# Altium integrated library Resistors.IntLib: 4954 symbols (part 22 of 32)
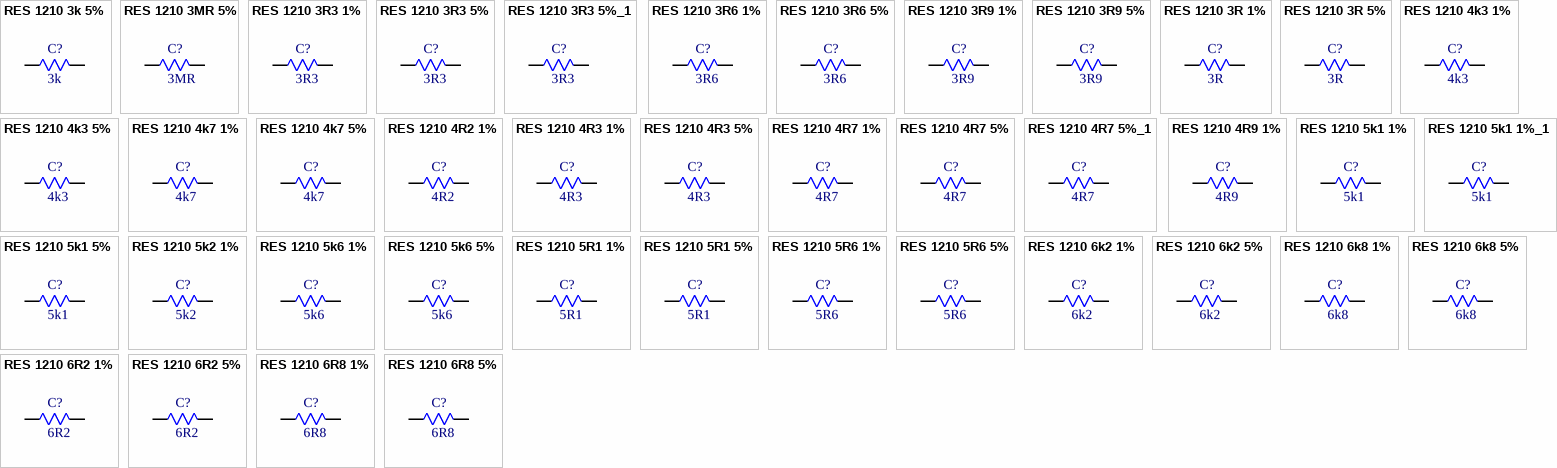
[diagram p144: symbols RES 1210 3k 5% to RES 1210 6R8 5%]

## RES 1210 6R2 5%
designator C?, comment 6R2
6.2R 5% 500mW 1210 Thick Film Resistor; Manufacturer: FOJAN; Manufacturer Part Number: FRC1210J6R2 TS; Voltage Rating: 200V; Supplier: LCSC; Supplier Part Number: C2960742; Resistance: 6R2; Tolerance: 5%; Power: 500mW
footprint RES SMD 1210
pins: 1, 2

## RES 1210 6R8 1%
designator C?, comment 6R8
6.8R 1% 500mW 1210 Thick Film Resistor; Manufacturer: FOJAN; Manufacturer Part Number: FRC1210F6R80TS; Voltage Rating: 200V; Supplier: LCSC; Supplier Part Number: C5159743; Resistance: 6R8; Tolerance: 1%; Power: 500mW
footprint RES SMD 1210
pins: 1, 2

## RES 1210 6R8 5%
designator C?, comment 6R8
6.8R 5% 500mW 1210 Thick Film Resistor; Manufacturer: FOJAN; Manufacturer Part Number: FRC1210J6R8 TS; Voltage Rating: 200V; Supplier: LCSC; Supplier Part Number: C2933873; Resistance: 6R8; Tolerance: 5%; Power: 500mW
footprint RES SMD 1210
pins: 1, 2

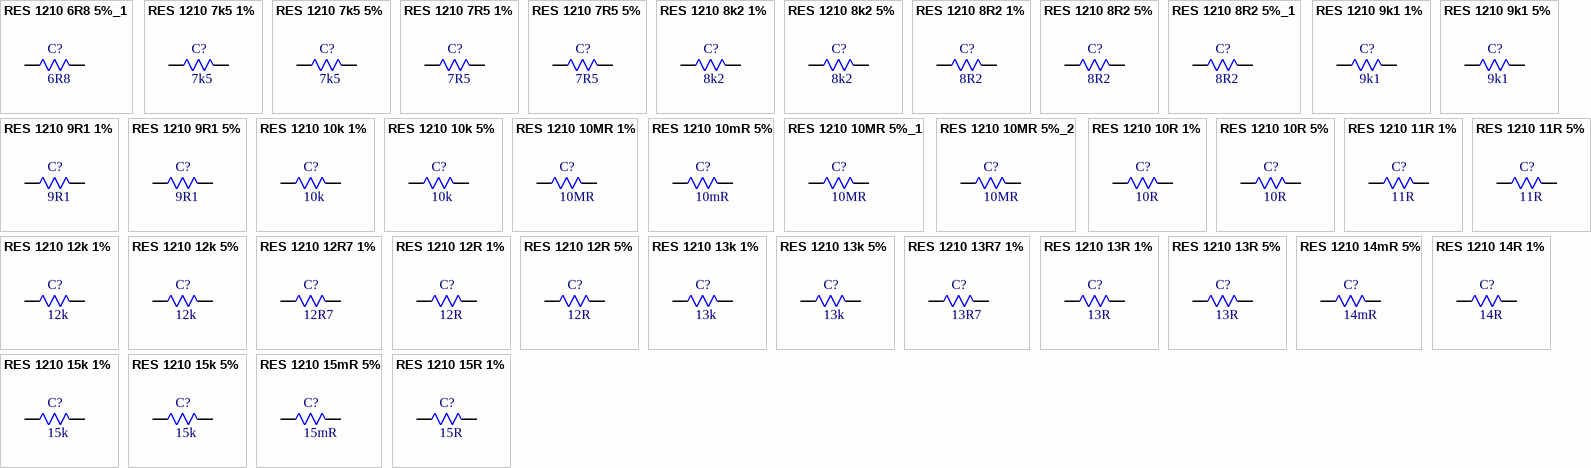
[diagram p84: symbols RES 1210 6R8 5%_1 to RES 1210 15R 1%]

## RES 1210 6R8 5%_1
designator C?, comment 6R8
6.8MR 5% 500mW 1210 Thick Film Resistor; Manufacturer: FOJAN; Manufacturer Part Number: FRC1210J685 TS; Voltage Rating: 200V; Supplier: LCSC; Supplier Part Number: C5713343; Resistance: 6R8; Tolerance: 5%; Power: 500mW
footprint RES SMD 1210
pins: 1, 2

## RES 1210 7k5 1%
designator C?, comment 7k5
7.5kR 500mW 200V Thick Film Resistor 1% 100ppm/â„ƒ 1210 Chip Resistor - Surface Mount RoHS; Manufacturer: FOJAN; Manufacturer Part Number: FRC1210F7501TS; Supplier: LCSC; Supplier Part Number: C7467381; Resistance: 7k5; Tolerance: 1%; Voltage Rating: 200V; Power: 500mW
footprint RES SMD 1210
pins: 1, 2

## RES 1210 7k5 5%
designator C?, comment 7k5
7.5kR 5% 500mW 1210 Thick Film Resistor; Manufacturer: FOJAN; Manufacturer Part Number: FRC1210J752TS; Voltage Rating: 200V; Supplier: LCSC; Supplier Part Number: C2930449; Resistance: 7k5; Tolerance: 5%; Power: 500mW
footprint RES SMD 1210
pins: 1, 2

## RES 1210 7R5 1%
designator C?, comment 7R5
7.5R 1% 500mW 1210 Thick Film Resistor; Manufacturer: FOJAN; Manufacturer Part Number: FRC1210F7R50TS; Voltage Rating: 200V; Supplier: LCSC; Supplier Part Number: C3013284; Resistance: 7R5; Tolerance: 1%; Power: 500mW
footprint RES SMD 1210
pins: 1, 2

## RES 1210 7R5 5%
designator C?, comment 7R5
7.5R 5% 500mW 1210 Thick Film Resistor; Manufacturer: FOJAN; Manufacturer Part Number: FRC1210J7R5TS; Voltage Rating: 200V; Supplier: LCSC; Supplier Part Number: C3000677; Resistance: 7R5; Tolerance: 5%; Power: 500mW
footprint RES SMD 1210
pins: 1, 2

## RES 1210 8k2 1%
designator C?, comment 8k2
8.2kR 1% 500mW 1210 Thick Film Resistor; Manufacturer: FOJAN; Manufacturer Part Number: FRC1210F8201TS; Voltage Rating: 200V; Supplier: LCSC; Supplier Part Number: C5126168; Resistance: 8k2; Tolerance: 1%; Power: 500mW
footprint RES SMD 1210
pins: 1, 2

## RES 1210 8k2 5%
designator C?, comment 8k2
8.2kR 5% 500mW 1210 Thick Film Resistor; Manufacturer: FOJAN; Manufacturer Part Number: FRC1210J822 TS; Voltage Rating: 200V; Supplier: LCSC; Supplier Part Number: C2960785; Resistance: 8k2; Tolerance: 5%; Power: 500mW
footprint RES SMD 1210
pins: 1, 2

## RES 1210 8R2 1%
designator C?, comment 8R2
8.2R 1% 500mW 1210 Thick Film Resistor; Manufacturer: FOJAN; Manufacturer Part Number: FRC1210F8R20TS; Voltage Rating: 200V; Supplier: LCSC; Supplier Part Number: C2933825; Resistance: 8R2; Tolerance: 1%; Power: 500mW
footprint RES SMD 1210
pins: 1, 2

## RES 1210 8R2 5%
designator C?, comment 8R2
8.2MR 5% 500mW 1210 Thick Film Resistor; Manufacturer: FOJAN; Manufacturer Part Number: FRC1210J825 TS; Voltage Rating: 200V; Supplier: LCSC; Supplier Part Number: C5713344; Resistance: 8R2; Tolerance: 5%; Power: 500mW
footprint RES SMD 1210
pins: 1, 2

## RES 1210 8R2 5%_1
designator C?, comment 8R2
8.2R 5% 500mW 1210 Thick Film Resistor; Manufacturer: FOJAN; Manufacturer Part Number: FRC1210J8R2 TS; Voltage Rating: 200V; Supplier: LCSC; Supplier Part Number: C5121557; Resistance: 8R2; Tolerance: 5%; Power: 500mW
footprint RES SMD 1210
pins: 1, 2

## RES 1210 9k1 1%
designator C?, comment 9k1
9.1kR 500mW 200V Thick Film Resistor 1% 1210 Chip Resistor - Surface Mount RoHS; Manufacturer: FOJAN; Manufacturer Part Number: FRC1210F9101TS; Supplier: LCSC; Supplier Part Number: C51048286; Resistance: 9k1; Tolerance: 1%; Voltage Rating: 200V; Power: 500mW
footprint RES SMD 1210
pins: 1, 2

## RES 1210 9k1 5%
designator C?, comment 9k1
9.1kR 5% 500mW 1210 Thick Film Resistor; Manufacturer: FOJAN; Manufacturer Part Number: FRC1210J912TS; Voltage Rating: 200V; Supplier: LCSC; Supplier Part Number: C3000635; Resistance: 9k1; Tolerance: 5%; Power: 500mW
footprint RES SMD 1210
pins: 1, 2

## RES 1210 9R1 1%
designator C?, comment 9R1
9.1R 1% 500mW 1210 Thick Film Resistor; Manufacturer: FOJAN; Manufacturer Part Number: FRC1210F9R10TS; Voltage Rating: 200V; Supplier: LCSC; Supplier Part Number: C2933826; Resistance: 9R1; Tolerance: 1%; Power: 500mW
footprint RES SMD 1210
pins: 1, 2

## RES 1210 9R1 5%
designator C?, comment 9R1
9.1R 5% 500mW 1210 Thick Film Resistor; Manufacturer: FOJAN; Manufacturer Part Number: FRC1210J9R1TS; Voltage Rating: 200V; Supplier: LCSC; Supplier Part Number: C3000704; Resistance: 9R1; Tolerance: 5%; Power: 500mW
footprint RES SMD 1210
pins: 1, 2

## RES 1210 10k 1%
designator C?, comment 10k
10kR 1% 500mW 1210 Thick Film Resistor; Manufacturer: FOJAN; Manufacturer Part Number: FRC1210F1002TS; Voltage Rating: 200V; Supplier: LCSC; Supplier Part Number: C2974059; Resistance: 10k; Tolerance: 1%; Power: 500mW
footprint RES SMD 1210
pins: 1, 2

## RES 1210 10k 5%
designator C?, comment 10k
10kR 5% 500mW 1210 Thick Film Resistor; Manufacturer: FOJAN; Manufacturer Part Number: FRC1210J103 TS; Voltage Rating: 200V; Supplier: LCSC; Supplier Part Number: C2974065; Resistance: 10k; Tolerance: 5%; Power: 500mW
footprint RES SMD 1210
pins: 1, 2

## RES 1210 10MR 1%
designator C?, comment 10MR
10MR 1% 500mW 1210 Thick Film Resistor; Manufacturer: FOJAN; Manufacturer Part Number: FRC1210F1005TS; Voltage Rating: 200V; Supplier: LCSC; Supplier Part Number: C5121550; Resistance: 10MR; Tolerance: 1%; Power: 500mW
footprint RES SMD 1210
pins: 1, 2

## RES 1210 10mR 5%
designator C?, comment 10mR
500mW 10mR Thick Film Resistor 5% 1210 Chip Resistor - Surface Mount RoHS; Manufacturer: FOJAN; Manufacturer Part Number: FRL1210JR010TS; Supplier: LCSC; Supplier Part Number: C7467566; Resistance: 10mR; Tolerance: 5%; Power: 500mW
footprint RES SMD 1210
pins: 1, 2

## RES 1210 10MR 5%_1
designator C?, comment 10MR
10MR 5% 500mW 1210 Thick Film Resistor; Manufacturer: FOJAN; Manufacturer Part Number: FRC1210J106 TS; Voltage Rating: 200V; Supplier: LCSC; Supplier Part Number: C2960936; Resistance: 10MR; Tolerance: 5%; Power: 500mW
footprint RES SMD 1210
pins: 1, 2

## RES 1210 10MR 5%_2
designator C?, comment 10MR
10MR 5% 500mW 1210 Thick Film Resistor; Manufacturer: FOJAN; Manufacturer Part Number: FRG1210J106TS; Voltage Rating: 200V; Supplier: LCSC; Supplier Part Number: C3000688; Resistance: 10MR; Tolerance: 5%; Power: 500mW
footprint RES SMD 1210
pins: 1, 2

## RES 1210 10R 1%
designator C?, comment 10R
10R 1% 500mW 1210 Thick Film Resistor; Manufacturer: FOJAN; Manufacturer Part Number: FRC1210F10R0TS; Voltage Rating: 200V; Supplier: LCSC; Supplier Part Number: C2974060; Resistance: 10R; Tolerance: 1%; Power: 500mW
footprint RES SMD 1210
pins: 1, 2

## RES 1210 10R 5%
designator C?, comment 10R
10R 5% 500mW 1210 Thick Film Resistor; Manufacturer: FOJAN; Manufacturer Part Number: FRC1210J100 TS; Voltage Rating: 200V; Supplier: LCSC; Supplier Part Number: C2907544; Resistance: 10R; Tolerance: 5%; Power: 500mW
footprint RES SMD 1210
pins: 1, 2

## RES 1210 11R 1%
designator C?, comment 11R
11R 1% 500mW 1210 Thick Film Resistor; Manufacturer: FOJAN; Manufacturer Part Number: FRC1210F11R0TS; Voltage Rating: 200V; Supplier: LCSC; Supplier Part Number: C2974061; Resistance: 11R; Tolerance: 1%; Power: 500mW
footprint RES SMD 1210
pins: 1, 2

## RES 1210 11R 5%
designator C?, comment 11R
11R 5% 500mW 1210 Thick Film Resistor; Manufacturer: FOJAN; Manufacturer Part Number: FRC1210J110 TS; Voltage Rating: 200V; Supplier: LCSC; Supplier Part Number: C2974066; Resistance: 11R; Tolerance: 5%; Power: 500mW
footprint RES SMD 1210
pins: 1, 2

## RES 1210 12k 1%
designator C?, comment 12k
12kR 500mW 200V Thick Film Resistor 1% 100ppm/â„ƒ 1210 Chip Resistor - Surface Mount RoHS; Manufacturer: FOJAN; Manufacturer Part Number: FRC1210F1202TS; Supplier: LCSC; Supplier Part Number: C7467475; Resistance: 12k; Tolerance: 1%; Voltage Rating: 200V; Power: 500mW
footprint RES SMD 1210
pins: 1, 2

## RES 1210 12k 5%
designator C?, comment 12k
12kR 5% 500mW 1210 Thick Film Resistor; Manufacturer: FOJAN; Manufacturer Part Number: FRC1210J123TS; Voltage Rating: 200V; Supplier: LCSC; Supplier Part Number: C2930437; Resistance: 12k; Tolerance: 5%; Power: 500mW
footprint RES SMD 1210
pins: 1, 2

## RES 1210 12R7 1%
designator C?, comment 12R7
12.7R 1% 500mW 1210 Thick Film Resistor; Manufacturer: FOJAN; Manufacturer Part Number: FRC1210F12R7TS; Voltage Rating: 200V; Supplier: LCSC; Supplier Part Number: C42372186; Resistance: 12R7; Tolerance: 1%; Power: 500mW
footprint RES SMD 1210
pins: 1, 2

## RES 1210 12R 1%
designator C?, comment 12R
12R 1% 500mW 1210 Thick Film Resistor; Manufacturer: FOJAN; Manufacturer Part Number: FRC1210F12R0TS; Voltage Rating: 200V; Supplier: LCSC; Supplier Part Number: C2933802; Resistance: 12R; Tolerance: 1%; Power: 500mW
footprint RES SMD 1210
pins: 1, 2

## RES 1210 12R 5%
designator C?, comment 12R
12R 5% 500mW 1210 Thick Film Resistor; Manufacturer: FOJAN; Manufacturer Part Number: FRC1210J120TS; Voltage Rating: 200V; Supplier: LCSC; Supplier Part Number: C2930438; Resistance: 12R; Tolerance: 5%; Power: 500mW
footprint RES SMD 1210
pins: 1, 2

## RES 1210 13k 1%
designator C?, comment 13k
13kR 1% 500mW 1210 Thick Film Resistor; Manufacturer: FOJAN; Manufacturer Part Number: FRC1210F1302TS; Voltage Rating: 200V; Supplier: LCSC; Supplier Part Number: C2999609; Resistance: 13k; Tolerance: 1%; Power: 500mW
footprint RES SMD 1210
pins: 1, 2

## RES 1210 13k 5%
designator C?, comment 13k
13kR 5% 500mW 1210 Thick Film Resistor; Manufacturer: FOJAN; Manufacturer Part Number: FRC1210J133 TS; Voltage Rating: 200V; Supplier: LCSC; Supplier Part Number: C2960687; Resistance: 13k; Tolerance: 5%; Power: 500mW
footprint RES SMD 1210
pins: 1, 2

## RES 1210 13R7 1%
designator C?, comment 13R7
500mW 13.7R 200V Thick Film Resistor 100ppm/â„ƒ 1% 1210 Chip Resistor - Surface Mount RoHS; Manufacturer: FOJAN; Manufacturer Part Number: FRC1210F13R7TS; Supplier: LCSC; Supplier Part Number: C49196909; Resistance: 13R7; Tolerance: 1%; Voltage Rating: 200V; Power: 500mW
footprint RES SMD 1210
pins: 1, 2

## RES 1210 13R 1%
designator C?, comment 13R
13R 1% 500mW 1210 Thick Film Resistor; Manufacturer: FOJAN; Manufacturer Part Number: FRC1210F13R0TS; Voltage Rating: 200V; Supplier: LCSC; Supplier Part Number: C2933803; Resistance: 13R; Tolerance: 1%; Power: 500mW
footprint RES SMD 1210
pins: 1, 2

## RES 1210 13R 5%
designator C?, comment 13R
13R 5% 500mW 1210 Thick Film Resistor; Manufacturer: FOJAN; Manufacturer Part Number: FRC1210J130 TS; Voltage Rating: 200V; Supplier: LCSC; Supplier Part Number: C2933834; Resistance: 13R; Tolerance: 5%; Power: 500mW
footprint RES SMD 1210
pins: 1, 2

## RES 1210 14mR 5%
designator C?, comment 14mR
500mW 14mR Thick Film Resistor 5% 1210 Chip Resistor - Surface Mount RoHS; Manufacturer: FOJAN; Manufacturer Part Number: FRL1210JR014TS; Supplier: LCSC; Supplier Part Number: C7467363; Resistance: 14mR; Tolerance: 5%; Power: 500mW
footprint RES SMD 1210
pins: 1, 2

## RES 1210 14R 1%
designator C?, comment 14R
14R 500mW 200V Thick Film Resistor 1% 1210 Chip Resistor - Surface Mount RoHS; Manufacturer: FOJAN; Manufacturer Part Number: FRC1210F14R0TS; Supplier: LCSC; Supplier Part Number: C51048193; Resistance: 14R; Tolerance: 1%; Voltage Rating: 200V; Power: 500mW
footprint RES SMD 1210
pins: 1, 2

## RES 1210 15k 1%
designator C?, comment 15k
15kR 1% 500mW 1210 Thick Film Resistor; Manufacturer: FOJAN; Manufacturer Part Number: FRC1210F1502TS; Voltage Rating: 200V; Supplier: LCSC; Supplier Part Number: C3013273; Resistance: 15k; Tolerance: 1%; Power: 500mW
footprint RES SMD 1210
pins: 1, 2

## RES 1210 15k 5%
designator C?, comment 15k
15kR 5% 500mW 1210 Thick Film Resistor; Manufacturer: FOJAN; Manufacturer Part Number: FRC1210J153 TS; Voltage Rating: 200V; Supplier: LCSC; Supplier Part Number: C2933837; Resistance: 15k; Tolerance: 5%; Power: 500mW
footprint RES SMD 1210
pins: 1, 2

## RES 1210 15mR 5%
designator C?, comment 15mR
500mW 15mR Thick Film Resistor 5% 1210 Chip Resistor - Surface Mount RoHS; Manufacturer: FOJAN; Manufacturer Part Number: FRL1210JR015TS; Supplier: LCSC; Supplier Part Number: C7467509; Resistance: 15mR; Tolerance: 5%; Power: 500mW
footprint RES SMD 1210
pins: 1, 2

## RES 1210 15R 1%
designator C?, comment 15R
15R 1% 500mW 1210 Thick Film Resistor; Manufacturer: FOJAN; Manufacturer Part Number: FRC1210F15R0TS; Voltage Rating: 200V; Supplier: LCSC; Supplier Part Number: C2960857; Resistance: 15R; Tolerance: 1%; Power: 500mW
footprint RES SMD 1210
pins: 1, 2

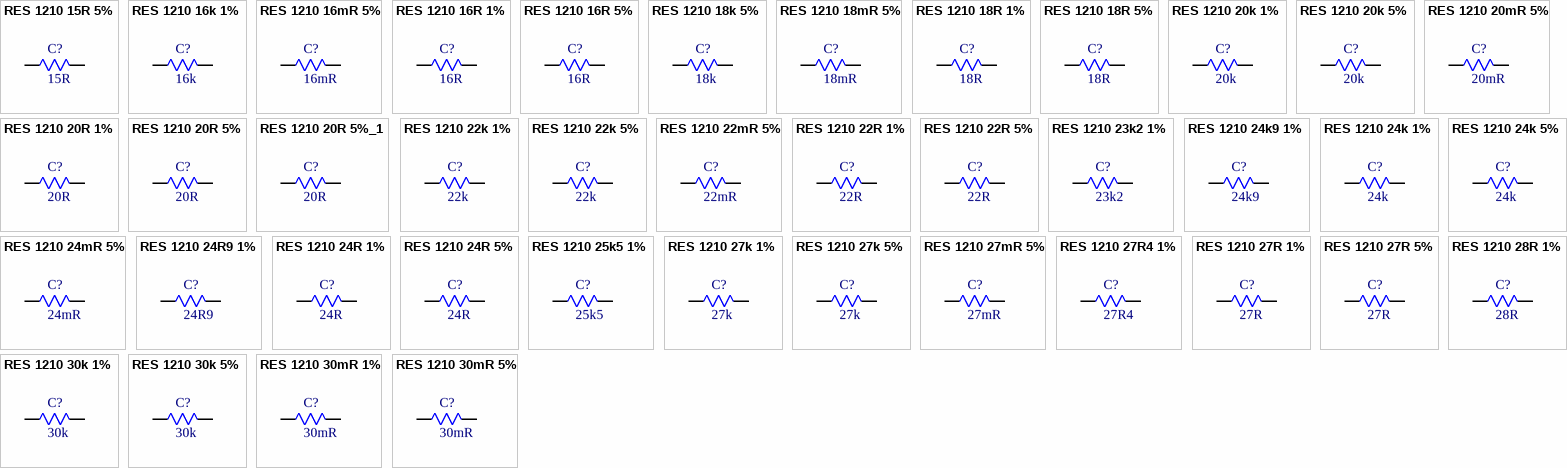
[diagram p85: symbols RES 1210 15R 5% to RES 1210 30mR 5%]

## RES 1210 15R 5%
designator C?, comment 15R
15R 5% 500mW 1210 Thick Film Resistor; Manufacturer: FOJAN; Manufacturer Part Number: FRC1210J150 TS; Voltage Rating: 200V; Supplier: LCSC; Supplier Part Number: C2933836; Resistance: 15R; Tolerance: 5%; Power: 500mW
footprint RES SMD 1210
pins: 1, 2

## RES 1210 16k 1%
designator C?, comment 16k
16kR 1% 500mW 1210 Thick Film Resistor; Manufacturer: FOJAN; Manufacturer Part Number: FRC1210F1602TS; Voltage Rating: 200V; Supplier: LCSC; Supplier Part Number: C3013274; Resistance: 16k; Tolerance: 1%; Power: 500mW
footprint RES SMD 1210
pins: 1, 2

## RES 1210 16mR 5%
designator C?, comment 16mR
500mW 16mR Thick Film Resistor 5% 1210 Chip Resistor - Surface Mount RoHS; Manufacturer: FOJAN; Manufacturer Part Number: FRL1210JR016TS; Supplier: LCSC; Supplier Part Number: C7467529; Resistance: 16mR; Tolerance: 5%; Power: 500mW
footprint RES SMD 1210
pins: 1, 2

## RES 1210 16R 1%
designator C?, comment 16R
16R 1% 500mW 1210 Thick Film Resistor; Manufacturer: FOJAN; Manufacturer Part Number: FRC1210F16R0TS; Voltage Rating: 200V; Supplier: LCSC; Supplier Part Number: C2974063; Resistance: 16R; Tolerance: 1%; Power: 500mW
footprint RES SMD 1210
pins: 1, 2

## RES 1210 16R 5%
designator C?, comment 16R
16R 5% 500mW 1210 Thick Film Resistor; Manufacturer: FOJAN; Manufacturer Part Number: FRC1210J160 TS; Voltage Rating: 200V; Supplier: LCSC; Supplier Part Number: C2960887; Resistance: 16R; Tolerance: 5%; Power: 500mW
footprint RES SMD 1210
pins: 1, 2

## RES 1210 18k 5%
designator C?, comment 18k
18kR 5% 500mW 1210 Thick Film Resistor; Manufacturer: FOJAN; Manufacturer Part Number: FRC1210J183 TS; Voltage Rating: 200V; Supplier: LCSC; Supplier Part Number: C5126021; Resistance: 18k; Tolerance: 5%; Power: 500mW
footprint RES SMD 1210
pins: 1, 2

## RES 1210 18mR 5%
designator C?, comment 18mR
500mW 18mR Thick Film Resistor 5% 1210 Chip Resistor - Surface Mount RoHS; Manufacturer: FOJAN; Manufacturer Part Number: FRL1210JR018TS; Supplier: LCSC; Supplier Part Number: C7467526; Resistance: 18mR; Tolerance: 5%; Power: 500mW
footprint RES SMD 1210
pins: 1, 2

## RES 1210 18R 1%
designator C?, comment 18R
18R 1% 500mW 1210 Thick Film Resistor; Manufacturer: FOJAN; Manufacturer Part Number: FRC1210F18R0TS; Voltage Rating: 200V; Supplier: LCSC; Supplier Part Number: C2933807; Resistance: 18R; Tolerance: 1%; Power: 500mW
footprint RES SMD 1210
pins: 1, 2

## RES 1210 18R 5%
designator C?, comment 18R
18R 5% 500mW 1210 Thick Film Resistor; Manufacturer: FOJAN; Manufacturer Part Number: FRC1210J180 TS; Voltage Rating: 200V; Supplier: LCSC; Supplier Part Number: C2960667; Resistance: 18R; Tolerance: 5%; Power: 500mW
footprint RES SMD 1210
pins: 1, 2

## RES 1210 20k 1%
designator C?, comment 20k
20kR 1% 500mW 1210 Thick Film Resistor; Manufacturer: FOJAN; Manufacturer Part Number: FRC1210F2002TS; Voltage Rating: 200V; Supplier: LCSC; Supplier Part Number: C3013276; Resistance: 20k; Tolerance: 1%; Power: 500mW
footprint RES SMD 1210
pins: 1, 2

## RES 1210 20k 5%
designator C?, comment 20k
20kR 5% 500mW 1210 Thick Film Resistor; Manufacturer: FOJAN; Manufacturer Part Number: FRC1210J203 TS; Voltage Rating: 200V; Supplier: LCSC; Supplier Part Number: C2933844; Resistance: 20k; Tolerance: 5%; Power: 500mW
footprint RES SMD 1210
pins: 1, 2

## RES 1210 20mR 5%
designator C?, comment 20mR
20mR 500mW Thick Film Resistor 1200ppm/â„ƒ 5% 1210 Chip Resistor - Surface Mount RoHS; Manufacturer: FOJAN; Manufacturer Part Number: FRL1210JR020TS; Supplier: LCSC; Supplier Part Number: C7467503; Resistance: 20mR; Tolerance: 5%; Power: 500mW
footprint RES SMD 1210
pins: 1, 2

## RES 1210 20R 1%
designator C?, comment 20R
20R 1% 500mW 1210 Thick Film Resistor; Manufacturer: FOJAN; Manufacturer Part Number: FRC1210F20R0TS; Voltage Rating: 200V; Supplier: LCSC; Supplier Part Number: C2933813; Resistance: 20R; Tolerance: 1%; Power: 500mW
footprint RES SMD 1210
pins: 1, 2

## RES 1210 20R 5%
designator C?, comment 20R
750mW 20R Thick Film Resistor 200ppm/â„ƒ 5% 1210 Chip Resistor - Surface Mount RoHS; Manufacturer: FOJAN; Manufacturer Part Number: FPS1210J200 TS; Supplier: LCSC; Supplier Part Number: C3013392; Resistance: 20R; Tolerance: 5%; Power: 750mW
footprint RES SMD 1210
pins: 1, 2

## RES 1210 20R 5%_1
designator C?, comment 20R
20R 5% 500mW 1210 Thick Film Resistor; Manufacturer: FOJAN; Manufacturer Part Number: FRC1210J200 TS; Voltage Rating: 200V; Supplier: LCSC; Supplier Part Number: C2933843; Resistance: 20R; Tolerance: 5%; Power: 500mW
footprint RES SMD 1210
pins: 1, 2

## RES 1210 22k 1%
designator C?, comment 22k
22kR 1% 500mW 1210 Thick Film Resistor; Manufacturer: FOJAN; Manufacturer Part Number: FRC1210F2202TS; Voltage Rating: 200V; Supplier: LCSC; Supplier Part Number: C2933814; Resistance: 22k; Tolerance: 1%; Power: 500mW
footprint RES SMD 1210
pins: 1, 2

## RES 1210 22k 5%
designator C?, comment 22k
22kR 5% 500mW 1210 Thick Film Resistor; Manufacturer: FOJAN; Manufacturer Part Number: FRC1210J223 TS; Voltage Rating: 200V; Supplier: LCSC; Supplier Part Number: C2933848; Resistance: 22k; Tolerance: 5%; Power: 500mW
footprint RES SMD 1210
pins: 1, 2

## RES 1210 22mR 5%
designator C?, comment 22mR
22mR 500mW Thick Film Resistor 1200ppm/â„ƒ 5% 1210 Chip Resistor - Surface Mount RoHS; Manufacturer: FOJAN; Manufacturer Part Number: FRL1210JR022TS; Supplier: LCSC; Supplier Part Number: C7467548; Resistance: 22mR; Tolerance: 5%; Power: 500mW
footprint RES SMD 1210
pins: 1, 2

## RES 1210 22R 1%
designator C?, comment 22R
22R 1% 500mW 1210 Thick Film Resistor; Manufacturer: FOJAN; Manufacturer Part Number: FRC1210F22R0TS; Voltage Rating: 200V; Supplier: LCSC; Supplier Part Number: C2960863; Resistance: 22R; Tolerance: 1%; Power: 500mW
footprint RES SMD 1210
pins: 1, 2

## RES 1210 22R 5%
designator C?, comment 22R
22R 5% 500mW 1210 Thick Film Resistor; Manufacturer: FOJAN; Manufacturer Part Number: FRC1210J220 TS; Voltage Rating: 200V; Supplier: LCSC; Supplier Part Number: C2933847; Resistance: 22R; Tolerance: 5%; Power: 500mW
footprint RES SMD 1210
pins: 1, 2

## RES 1210 23k2 1%
designator C?, comment 23k2
23.2kR 500mW 200V Thick Film Resistor 1% 1210 Chip Resistor - Surface Mount RoHS; Manufacturer: FOJAN; Manufacturer Part Number: FRC1210F2322TS; Supplier: LCSC; Supplier Part Number: C51048287; Resistance: 23k2; Tolerance: 1%; Voltage Rating: 200V; Power: 500mW
footprint RES SMD 1210
pins: 1, 2

## RES 1210 24k9 1%
designator C?, comment 24k9
500mW 24.9kR 200V Thick Film Resistor 100ppm/â„ƒ 1% 1210 Chip Resistor - Surface Mount RoHS; Manufacturer: FOJAN; Manufacturer Part Number: FRC1210F2492TS; Supplier: LCSC; Supplier Part Number: C49196917; Resistance: 24k9; Tolerance: 1%; Voltage Rating: 200V; Power: 500mW
footprint RES SMD 1210
pins: 1, 2

## RES 1210 24k 1%
designator C?, comment 24k
24kR 500mW 200V Thick Film Resistor 1% 1210 Chip Resistor - Surface Mount RoHS; Manufacturer: FOJAN; Manufacturer Part Number: FRC1210F2402TS; Supplier: LCSC; Supplier Part Number: C51048223; Resistance: 24k; Tolerance: 1%; Voltage Rating: 200V; Power: 500mW
footprint RES SMD 1210
pins: 1, 2

## RES 1210 24k 5%
designator C?, comment 24k
24kR 5% 500mW 1210 Thick Film Resistor; Manufacturer: FOJAN; Manufacturer Part Number: FRC1210J243 TS; Voltage Rating: 200V; Supplier: LCSC; Supplier Part Number: C2933853; Resistance: 24k; Tolerance: 5%; Power: 500mW
footprint RES SMD 1210
pins: 1, 2

## RES 1210 24mR 5%
designator C?, comment 24mR
500mW 24mR Thick Film Resistor 1200ppm/â„ƒ 5% 1210 Chip Resistor - Surface Mount RoHS; Manufacturer: FOJAN; Manufacturer Part Number: FRL1210JR024TS; Supplier: LCSC; Supplier Part Number: C7467537; Resistance: 24mR; Tolerance: 5%; Power: 500mW
footprint RES SMD 1210
pins: 1, 2

## RES 1210 24R9 1%
designator C?, comment 24R9
24.9R 1% 500mW 1210 Thick Film Resistor; Manufacturer: FOJAN; Manufacturer Part Number: FRC1210F24R9TS; Voltage Rating: 200V; Supplier: LCSC; Supplier Part Number: C3000592; Resistance: 24R9; Tolerance: 1%; Power: 500mW
footprint RES SMD 1210
pins: 1, 2

## RES 1210 24R 1%
designator C?, comment 24R
24R 1% 500mW 1210 Thick Film Resistor; Manufacturer: FOJAN; Manufacturer Part Number: FRC1210F24R0TS; Voltage Rating: 200V; Supplier: LCSC; Supplier Part Number: C2933815; Resistance: 24R; Tolerance: 1%; Power: 500mW
footprint RES SMD 1210
pins: 1, 2

## RES 1210 24R 5%
designator C?, comment 24R
24R 5% 500mW 1210 Thick Film Resistor; Manufacturer: FOJAN; Manufacturer Part Number: FRC1210J240 TS; Voltage Rating: 200V; Supplier: LCSC; Supplier Part Number: C2933850; Resistance: 24R; Tolerance: 5%; Power: 500mW
footprint RES SMD 1210
pins: 1, 2

## RES 1210 25k5 1%
designator C?, comment 25k5
500mW 25.5kR 200V Thick Film Resistor 100ppm/â„ƒ 1% 1210 Chip Resistor - Surface Mount RoHS; Manufacturer: FOJAN; Manufacturer Part Number: FRC1210F2552TS; Supplier: LCSC; Supplier Part Number: C49196900; Resistance: 25k5; Tolerance: 1%; Voltage Rating: 200V; Power: 500mW
footprint RES SMD 1210
pins: 1, 2

## RES 1210 27k 1%
designator C?, comment 27k
27kR 500mW 200V Thick Film Resistor 1% 1210 Chip Resistor - Surface Mount RoHS; Manufacturer: FOJAN; Manufacturer Part Number: FRC1210F2702TS; Supplier: LCSC; Supplier Part Number: C52033530; Resistance: 27k; Tolerance: 1%; Voltage Rating: 200V; Power: 500mW
footprint RES SMD 1210
pins: 1, 2

## RES 1210 27k 5%
designator C?, comment 27k
27kR 5% 500mW 1210 Thick Film Resistor; Manufacturer: FOJAN; Manufacturer Part Number: FRC1210J273 TS; Voltage Rating: 200V; Supplier: LCSC; Supplier Part Number: C2933856; Resistance: 27k; Tolerance: 5%; Power: 500mW
footprint RES SMD 1210
pins: 1, 2

## RES 1210 27mR 5%
designator C?, comment 27mR
500mW 27mR Thick Film Resistor 1200ppm/â„ƒ 5% 1210 Chip Resistor - Surface Mount RoHS; Manufacturer: FOJAN; Manufacturer Part Number: FRL1210JR027TS; Supplier: LCSC; Supplier Part Number: C7467542; Resistance: 27mR; Tolerance: 5%; Power: 500mW
footprint RES SMD 1210
pins: 1, 2

## RES 1210 27R4 1%
designator C?, comment 27R4
27.4R 500mW 200V Thick Film Resistor 1% 1210 Chip Resistor - Surface Mount RoHS; Manufacturer: FOJAN; Manufacturer Part Number: FRC1210F27R4TS; Supplier: LCSC; Supplier Part Number: C51048282; Resistance: 27R4; Tolerance: 1%; Voltage Rating: 200V; Power: 500mW
footprint RES SMD 1210
pins: 1, 2

## RES 1210 27R 1%
designator C?, comment 27R
27R 1% 500mW 1210 Thick Film Resistor; Manufacturer: FOJAN; Manufacturer Part Number: FRC1210F27R0TS; Voltage Rating: 200V; Supplier: LCSC; Supplier Part Number: C2960734; Resistance: 27R; Tolerance: 1%; Power: 500mW
footprint RES SMD 1210
pins: 1, 2

## RES 1210 27R 5%
designator C?, comment 27R
27R 5% 500mW 1210 Thick Film Resistor; Manufacturer: FOJAN; Manufacturer Part Number: FRC1210J270 TS; Voltage Rating: 200V; Supplier: LCSC; Supplier Part Number: C2960859; Resistance: 27R; Tolerance: 5%; Power: 500mW
footprint RES SMD 1210
pins: 1, 2

## RES 1210 28R 1%
designator C?, comment 28R
28R 500mW 200V Thick Film Resistor 1% 1210 Chip Resistor - Surface Mount RoHS; Manufacturer: FOJAN; Manufacturer Part Number: FRC1210F28R0TS; Supplier: LCSC; Supplier Part Number: C52033531; Resistance: 28R; Tolerance: 1%; Voltage Rating: 200V; Power: 500mW
footprint RES SMD 1210
pins: 1, 2

## RES 1210 30k 1%
designator C?, comment 30k
30kR 1% 500mW 1210 Thick Film Resistor; Manufacturer: FOJAN; Manufacturer Part Number: FRC1210F3002TS; Voltage Rating: 200V; Supplier: LCSC; Supplier Part Number: C5713337; Resistance: 30k; Tolerance: 1%; Power: 500mW
footprint RES SMD 1210
pins: 1, 2

## RES 1210 30k 5%
designator C?, comment 30k
30kR 5% 500mW 1210 Thick Film Resistor; Manufacturer: FOJAN; Manufacturer Part Number: FRC1210J303 TS; Voltage Rating: 200V; Supplier: LCSC; Supplier Part Number: C2960672; Resistance: 30k; Tolerance: 5%; Power: 500mW
footprint RES SMD 1210
pins: 1, 2

## RES 1210 30mR 1%
designator C?, comment 30mR
30mR 500mW Thick Film Resistor 1200ppm/â„ƒ 1% 1210 Chip Resistor - Surface Mount RoHS; Manufacturer: FOJAN; Manufacturer Part Number: FRL1210FR030TS; Supplier: LCSC; Supplier Part Number: C7467658; Resistance: 30mR; Tolerance: 1%; Power: 500mW
footprint RES SMD 1210
pins: 1, 2

## RES 1210 30mR 5%
designator C?, comment 30mR
30mR 500mW Thick Film Resistor 1200ppm/â„ƒ 5% 1210 Chip Resistor - Surface Mount RoHS; Manufacturer: FOJAN; Manufacturer Part Number: FRL1210JR030TS; Supplier: LCSC; Supplier Part Number: C7467507; Resistance: 30mR; Tolerance: 5%; Power: 500mW
footprint RES SMD 1210
pins: 1, 2

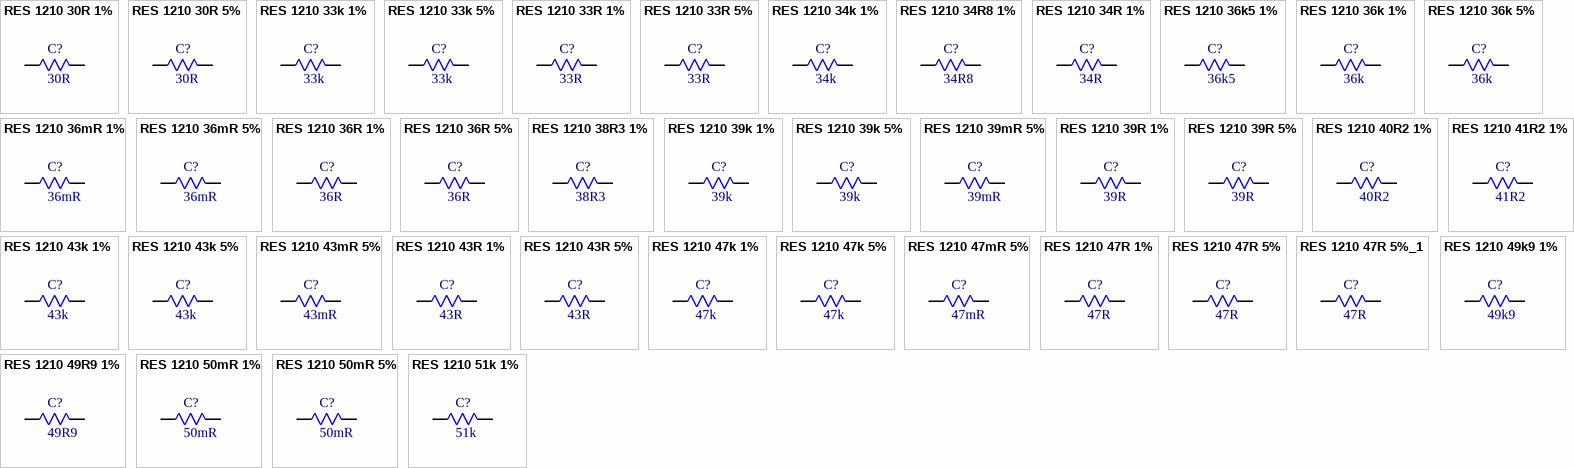
[diagram p86: symbols RES 1210 30R 1% to RES 1210 51k 1%]

## RES 1210 30R 1%
designator C?, comment 30R
30R 1% 500mW 1210 Thick Film Resistor; Manufacturer: FOJAN; Manufacturer Part Number: FRC1210F30R0TS; Voltage Rating: 200V; Supplier: LCSC; Supplier Part Number: C2999612; Resistance: 30R; Tolerance: 1%; Power: 500mW
footprint RES SMD 1210
pins: 1, 2

## RES 1210 30R 5%
designator C?, comment 30R
30R 5% 500mW 1210 Thick Film Resistor; Manufacturer: FOJAN; Manufacturer Part Number: FRC1210J300TS; Voltage Rating: 200V; Supplier: LCSC; Supplier Part Number: C3000691; Resistance: 30R; Tolerance: 5%; Power: 500mW
footprint RES SMD 1210
pins: 1, 2

## RES 1210 33k 1%
designator C?, comment 33k
33kR 1% 500mW 1210 Thick Film Resistor; Manufacturer: FOJAN; Manufacturer Part Number: FRC1210F3302TS; Voltage Rating: 200V; Supplier: LCSC; Supplier Part Number: C2933818; Resistance: 33k; Tolerance: 1%; Power: 500mW
footprint RES SMD 1210
pins: 1, 2

## RES 1210 33k 5%
designator C?, comment 33k
33kR 5% 500mW 1210 Thick Film Resistor; Manufacturer: FOJAN; Manufacturer Part Number: FRC1210J333 TS; Voltage Rating: 200V; Supplier: LCSC; Supplier Part Number: C2933861; Resistance: 33k; Tolerance: 5%; Power: 500mW
footprint RES SMD 1210
pins: 1, 2

## RES 1210 33R 1%
designator C?, comment 33R
33R 1% 500mW 1210 Thick Film Resistor; Manufacturer: FOJAN; Manufacturer Part Number: FRC1210F33R0TS; Voltage Rating: 200V; Supplier: LCSC; Supplier Part Number: C2933819; Resistance: 33R; Tolerance: 1%; Power: 500mW
footprint RES SMD 1210
pins: 1, 2

## RES 1210 33R 5%
designator C?, comment 33R
33R 5% 500mW 1210 Thick Film Resistor; Manufacturer: FOJAN; Manufacturer Part Number: FRC1210J330 TS; Voltage Rating: 200V; Supplier: LCSC; Supplier Part Number: C2907549; Resistance: 33R; Tolerance: 5%; Power: 500mW
footprint RES SMD 1210
pins: 1, 2

## RES 1210 34k 1%
designator C?, comment 34k
34kR 1% 500mW 1210 Thick Film Resistor; Manufacturer: FOJAN; Manufacturer Part Number: FRC1210F3402TS; Voltage Rating: 200V; Supplier: LCSC; Supplier Part Number: C5121552; Resistance: 34k; Tolerance: 1%; Power: 500mW
footprint RES SMD 1210
pins: 1, 2

## RES 1210 34R8 1%
designator C?, comment 34R8
34.8R 1% 500mW 1210 Thick Film Resistor; Manufacturer: FOJAN; Manufacturer Part Number: FRC1210F34R8TS; Voltage Rating: 200V; Supplier: LCSC; Supplier Part Number: C3000754; Resistance: 34R8; Tolerance: 1%; Power: 500mW
footprint RES SMD 1210
pins: 1, 2

## RES 1210 34R 1%
designator C?, comment 34R
500mW 34R 200V Thick Film Resistor 1% 1210 Chip Resistor - Surface Mount RoHS; Manufacturer: FOJAN; Manufacturer Part Number: FRC1210F34R0TS; Supplier: LCSC; Supplier Part Number: C51048208; Resistance: 34R; Tolerance: 1%; Voltage Rating: 200V; Power: 500mW
footprint RES SMD 1210
pins: 1, 2

## RES 1210 36k5 1%
designator C?, comment 36k5
500mW 36.5kR 200V Thick Film Resistor 100ppm/â„ƒ 1% 1210 Chip Resistor - Surface Mount RoHS; Manufacturer: FOJAN; Manufacturer Part Number: FRC1210F3652TS; Supplier: LCSC; Supplier Part Number: C48533719; Resistance: 36k5; Tolerance: 1%; Voltage Rating: 200V; Power: 500mW
footprint RES SMD 1210
pins: 1, 2

## RES 1210 36k 1%
designator C?, comment 36k
36kR 1% 500mW 1210 Thick Film Resistor; Manufacturer: FOJAN; Manufacturer Part Number: FRC1210F3602TS; Voltage Rating: 200V; Supplier: LCSC; Supplier Part Number: C5713339; Resistance: 36k; Tolerance: 1%; Power: 500mW
footprint RES SMD 1210
pins: 1, 2

## RES 1210 36k 5%
designator C?, comment 36k
36kR 5% 500mW 1210 Thick Film Resistor; Manufacturer: FOJAN; Manufacturer Part Number: FRC1210J363 TS; Voltage Rating: 200V; Supplier: LCSC; Supplier Part Number: C2907551; Resistance: 36k; Tolerance: 5%; Power: 500mW
footprint RES SMD 1210
pins: 1, 2

## RES 1210 36mR 1%
designator C?, comment 36mR
500mW 36mR Thick Film Resistor 1200ppm/â„ƒ 1% 1210 Chip Resistor - Surface Mount RoHS; Manufacturer: FOJAN; Manufacturer Part Number: FRL1210FR036TS; Supplier: LCSC; Supplier Part Number: C7467685; Resistance: 36mR; Tolerance: 1%; Power: 500mW
footprint RES SMD 1210
pins: 1, 2

## RES 1210 36mR 5%
designator C?, comment 36mR
500mW 36mR Thick Film Resistor 1200ppm/â„ƒ 5% 1210 Chip Resistor - Surface Mount RoHS; Manufacturer: FOJAN; Manufacturer Part Number: FRL1210JR036TS; Supplier: LCSC; Supplier Part Number: C7467519; Resistance: 36mR; Tolerance: 5%; Power: 500mW
footprint RES SMD 1210
pins: 1, 2

## RES 1210 36R 1%
designator C?, comment 36R
36R 1% 500mW 1210 Thick Film Resistor; Manufacturer: FOJAN; Manufacturer Part Number: FRC1210F36R0TS; Voltage Rating: 200V; Supplier: LCSC; Supplier Part Number: C5121553; Resistance: 36R; Tolerance: 1%; Power: 500mW
footprint RES SMD 1210
pins: 1, 2

## RES 1210 36R 5%
designator C?, comment 36R
36R 5% 500mW 1210 Thick Film Resistor; Manufacturer: FOJAN; Manufacturer Part Number: FRC1210J360TS; Voltage Rating: 200V; Supplier: LCSC; Supplier Part Number: C3000629; Resistance: 36R; Tolerance: 5%; Power: 500mW
footprint RES SMD 1210
pins: 1, 2

## RES 1210 38R3 1%
designator C?, comment 38R3
38.3R 1% 500mW 1210 Thick Film Resistor; Manufacturer: FOJAN; Manufacturer Part Number: FRC1210F38R3TS; Voltage Rating: 200V; Supplier: LCSC; Supplier Part Number: C42372188; Resistance: 38R3; Tolerance: 1%; Power: 500mW
footprint RES SMD 1210
pins: 1, 2

## RES 1210 39k 1%
designator C?, comment 39k
39kR 1% 500mW 1210 Thick Film Resistor; Manufacturer: FOJAN; Manufacturer Part Number: FRC1210F3902TS; Voltage Rating: 200V; Supplier: LCSC; Supplier Part Number: C5713340; Resistance: 39k; Tolerance: 1%; Power: 500mW
footprint RES SMD 1210
pins: 1, 2

## RES 1210 39k 5%
designator C?, comment 39k
39kR 5% 500mW 1210 Thick Film Resistor; Manufacturer: FOJAN; Manufacturer Part Number: FRC1210J393 TS; Voltage Rating: 200V; Supplier: LCSC; Supplier Part Number: C2933864; Resistance: 39k; Tolerance: 5%; Power: 500mW
footprint RES SMD 1210
pins: 1, 2

## RES 1210 39mR 5%
designator C?, comment 39mR
39mR 500mW Thick Film Resistor 1200ppm/â„ƒ 5% 1210 Chip Resistor - Surface Mount RoHS; Manufacturer: FOJAN; Manufacturer Part Number: FRL1210JR039TS; Supplier: LCSC; Supplier Part Number: C7467493; Resistance: 39mR; Tolerance: 5%; Power: 500mW
footprint RES SMD 1210
pins: 1, 2

## RES 1210 39R 1%
designator C?, comment 39R
39R 1% 500mW 1210 Thick Film Resistor; Manufacturer: FOJAN; Manufacturer Part Number: FRC1210F39R0TS; Voltage Rating: 200V; Supplier: LCSC; Supplier Part Number: C2999580; Resistance: 39R; Tolerance: 1%; Power: 500mW
footprint RES SMD 1210
pins: 1, 2

## RES 1210 39R 5%
designator C?, comment 39R
39R 5% 500mW 1210 Thick Film Resistor; Manufacturer: FOJAN; Manufacturer Part Number: FRC1210J390 TS; Voltage Rating: 200V; Supplier: LCSC; Supplier Part Number: C2960768; Resistance: 39R; Tolerance: 5%; Power: 500mW
footprint RES SMD 1210
pins: 1, 2

## RES 1210 40R2 1%
designator C?, comment 40R2
40.2R 1% 500mW 1210 Thick Film Resistor; Manufacturer: FOJAN; Manufacturer Part Number: FRC1210F40R2TS; Voltage Rating: 200V; Supplier: LCSC; Supplier Part Number: C2999572; Resistance: 40R2; Tolerance: 1%; Power: 500mW
footprint RES SMD 1210
pins: 1, 2

## RES 1210 41R2 1%
designator C?, comment 41R2
41.2R 1% 500mW 1210 Thick Film Resistor; Manufacturer: FOJAN; Manufacturer Part Number: FRC1210F41R2TS; Voltage Rating: 200V; Supplier: LCSC; Supplier Part Number: C5126253; Resistance: 41R2; Tolerance: 1%; Power: 500mW
footprint RES SMD 1210
pins: 1, 2

## RES 1210 43k 1%
designator C?, comment 43k
43kR 1% 500mW 1210 Thick Film Resistor; Manufacturer: FOJAN; Manufacturer Part Number: FRC1210F4302TS; Voltage Rating: 200V; Supplier: LCSC; Supplier Part Number: C5204028; Resistance: 43k; Tolerance: 1%; Power: 500mW
footprint RES SMD 1210
pins: 1, 2

## RES 1210 43k 5%
designator C?, comment 43k
43kR 500mW 200V Thick Film Resistor 100ppm/â„ƒ 5% 1210 Chip Resistor - Surface Mount RoHS; Manufacturer: FOJAN; Manufacturer Part Number: FRC1210J433 TS; Supplier: LCSC; Supplier Part Number: C18164305; Resistance: 43k; Tolerance: 5%; Voltage Rating: 200V; Power: 500mW
footprint RES SMD 1210
pins: 1, 2

## RES 1210 43mR 5%
designator C?, comment 43mR
43mR 5% 500mW 1210 Thick Film Resistor; Manufacturer: FOJAN; Manufacturer Part Number: FRL1210JR043TS; Voltage Rating: 500V; Supplier: LCSC; Supplier Part Number: C5713399; Resistance: 43mR; Tolerance: 5%; Power: 500mW
footprint RES SMD 1210
pins: 1, 2

## RES 1210 43R 1%
designator C?, comment 43R
43R 1% 500mW 1210 Thick Film Resistor; Manufacturer: FOJAN; Manufacturer Part Number: FRC1210F43R0TS; Voltage Rating: 200V; Supplier: LCSC; Supplier Part Number: C2999573; Resistance: 43R; Tolerance: 1%; Power: 500mW
footprint RES SMD 1210
pins: 1, 2

## RES 1210 43R 5%
designator C?, comment 43R
43R 5% 500mW 1210 Thick Film Resistor; Manufacturer: FOJAN; Manufacturer Part Number: FRC1210J430 TS; Voltage Rating: 200V; Supplier: LCSC; Supplier Part Number: C2960860; Resistance: 43R; Tolerance: 5%; Power: 500mW
footprint RES SMD 1210
pins: 1, 2

## RES 1210 47k 1%
designator C?, comment 47k
500mW 47kR 200V Thick Film Resistor 100ppm/â„ƒ 1% 1210 Chip Resistor - Surface Mount RoHS; Manufacturer: FOJAN; Manufacturer Part Number: FRC1210F4702TS; Supplier: LCSC; Supplier Part Number: C49196906; Resistance: 47k; Tolerance: 1%; Voltage Rating: 200V; Power: 500mW
footprint RES SMD 1210
pins: 1, 2

## RES 1210 47k 5%
designator C?, comment 47k
47kR 5% 500mW 1210 Thick Film Resistor; Manufacturer: FOJAN; Manufacturer Part Number: FRC1210J473TS; Voltage Rating: 200V; Supplier: LCSC; Supplier Part Number: C2930444; Resistance: 47k; Tolerance: 5%; Power: 500mW
footprint RES SMD 1210
pins: 1, 2

## RES 1210 47mR 5%
designator C?, comment 47mR
47mR 5% 500mW 1210 Thick Film Resistor; Manufacturer: FOJAN; Manufacturer Part Number: FRL1210JR047TS; Voltage Rating: 500V; Supplier: LCSC; Supplier Part Number: C5204046; Resistance: 47mR; Tolerance: 5%; Power: 500mW
footprint RES SMD 1210
pins: 1, 2

## RES 1210 47R 1%
designator C?, comment 47R
47R 1% 500mW 1210 Thick Film Resistor; Manufacturer: FOJAN; Manufacturer Part Number: FRC1210F47R0TS; Voltage Rating: 200V; Supplier: LCSC; Supplier Part Number: C3000755; Resistance: 47R; Tolerance: 1%; Power: 500mW
footprint RES SMD 1210
pins: 1, 2

## RES 1210 47R 5%
designator C?, comment 47R
47R 5% 500mW 1210 Thick Film Resistor; Manufacturer: FOJAN; Manufacturer Part Number: FRC1210J470 TS; Voltage Rating: 200V; Supplier: LCSC; Supplier Part Number: C2907552; Resistance: 47R; Tolerance: 5%; Power: 500mW
footprint RES SMD 1210
pins: 1, 2

## RES 1210 47R 5%_1
designator C?, comment 47R
500mW 47R 200V Thick Film Resistor 100ppm/â„ƒ 5% 1210 Chip Resistor - Surface Mount RoHS; Manufacturer: FOJAN; Manufacturer Part Number: FRQ1210J470 TS; Supplier: LCSC; Supplier Part Number: C48533735; Resistance: 47R; Tolerance: 5%; Voltage Rating: 200V; Power: 500mW
footprint RES SMD 1210
pins: 1, 2

## RES 1210 49k9 1%
designator C?, comment 49k9
49.9kR 1% 500mW 1210 Thick Film Resistor; Manufacturer: FOJAN; Manufacturer Part Number: FRC1210F4992TS; Voltage Rating: 200V; Supplier: LCSC; Supplier Part Number: C2933821; Resistance: 49k9; Tolerance: 1%; Power: 500mW
footprint RES SMD 1210
pins: 1, 2

## RES 1210 49R9 1%
designator C?, comment 49R9
49.9R 1% 500mW 1210 Thick Film Resistor; Manufacturer: FOJAN; Manufacturer Part Number: FRC1210F49R9TS; Voltage Rating: 200V; Supplier: LCSC; Supplier Part Number: C5154000; Resistance: 49R9; Tolerance: 1%; Power: 500mW
footprint RES SMD 1210
pins: 1, 2

## RES 1210 50mR 1%
designator C?, comment 50mR
500mW 50mR Thick Film Resistor 1200ppm/â„ƒ 1% 1210 Chip Resistor - Surface Mount RoHS; Manufacturer: FOJAN; Manufacturer Part Number: FRL1210FR050TS; Supplier: LCSC; Supplier Part Number: C7467709; Resistance: 50mR; Tolerance: 1%; Power: 500mW
footprint RES SMD 1210
pins: 1, 2

## RES 1210 50mR 5%
designator C?, comment 50mR
50mR 5% 500mW 1210 Thick Film Resistor; Manufacturer: FOJAN; Manufacturer Part Number: FRL1210JR050TS; Voltage Rating: 500V; Supplier: LCSC; Supplier Part Number: C3000612; Resistance: 50mR; Tolerance: 5%; Power: 500mW
footprint RES SMD 1210
pins: 1, 2

## RES 1210 51k 1%
designator C?, comment 51k
500mW 51kR 200V Thick Film Resistor 1% 1210 Chip Resistor - Surface Mount RoHS; Manufacturer: FOJAN; Manufacturer Part Number: FRC1210F5102TS; Supplier: LCSC; Supplier Part Number: C51048196; Resistance: 51k; Tolerance: 1%; Voltage Rating: 200V; Power: 500mW
footprint RES SMD 1210
pins: 1, 2

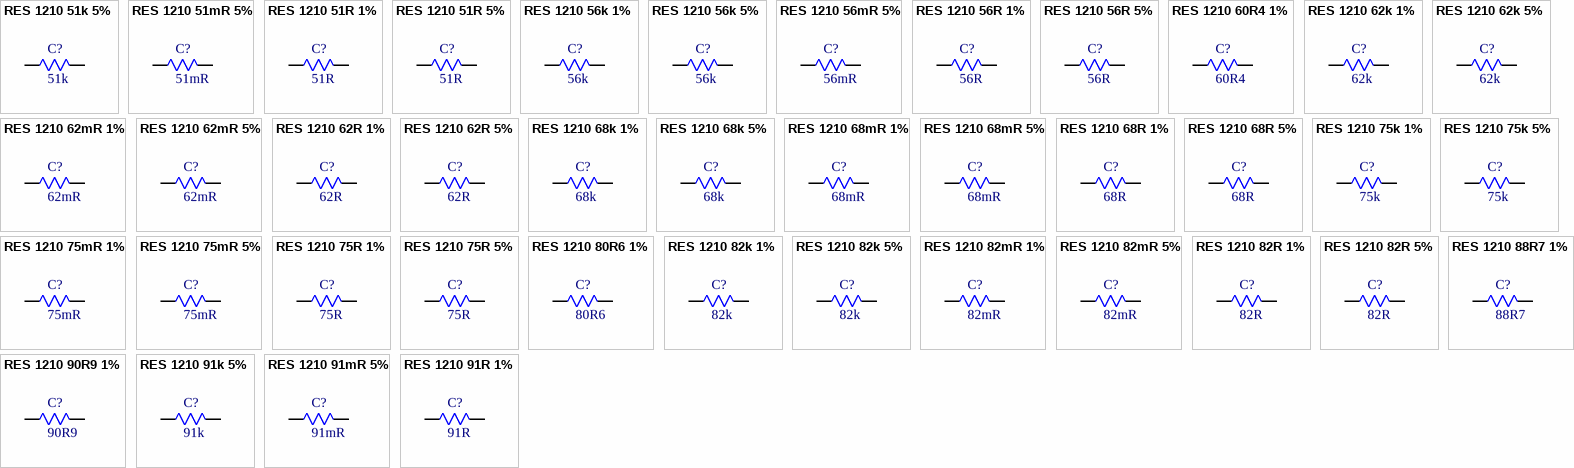
[diagram p87: symbols RES 1210 51k 5% to RES 1210 91R 1%]

## RES 1210 51k 5%
designator C?, comment 51k
51kR 5% 500mW 1210 Thick Film Resistor; Manufacturer: FOJAN; Manufacturer Part Number: FRC1210J513 TS; Voltage Rating: 200V; Supplier: LCSC; Supplier Part Number: C2960679; Resistance: 51k; Tolerance: 5%; Power: 500mW
footprint RES SMD 1210
pins: 1, 2

## RES 1210 51mR 5%
designator C?, comment 51mR
500mW 51mR Thick Film Resistor 1200ppm/â„ƒ 5% 1210 Chip Resistor - Surface Mount RoHS; Manufacturer: FOJAN; Manufacturer Part Number: FRL1210JR051TS; Supplier: LCSC; Supplier Part Number: C7467533; Resistance: 51mR; Tolerance: 5%; Power: 500mW
footprint RES SMD 1210
pins: 1, 2

## RES 1210 51R 1%
designator C?, comment 51R
51R 1% 500mW 1210 Thick Film Resistor; Manufacturer: FOJAN; Manufacturer Part Number: FRC1210F51R0TS; Voltage Rating: 200V; Supplier: LCSC; Supplier Part Number: C3000544; Resistance: 51R; Tolerance: 1%; Power: 500mW
footprint RES SMD 1210
pins: 1, 2

## RES 1210 51R 5%
designator C?, comment 51R
51R 5% 500mW 1210 Thick Film Resistor; Manufacturer: FOJAN; Manufacturer Part Number: FRC1210J510TS; Voltage Rating: 200V; Supplier: LCSC; Supplier Part Number: C3000692; Resistance: 51R; Tolerance: 5%; Power: 500mW
footprint RES SMD 1210
pins: 1, 2

## RES 1210 56k 1%
designator C?, comment 56k
56kR 1% 500mW 1210 Thick Film Resistor; Manufacturer: FOJAN; Manufacturer Part Number: FRC1210F5602TS; Voltage Rating: 200V; Supplier: LCSC; Supplier Part Number: C5126069; Resistance: 56k; Tolerance: 1%; Power: 500mW
footprint RES SMD 1210
pins: 1, 2

## RES 1210 56k 5%
designator C?, comment 56k
56kR 5% 500mW 1210 Thick Film Resistor; Manufacturer: FOJAN; Manufacturer Part Number: FRC1210J563 TS; Voltage Rating: 200V; Supplier: LCSC; Supplier Part Number: C2960918; Resistance: 56k; Tolerance: 5%; Power: 500mW
footprint RES SMD 1210
pins: 1, 2

## RES 1210 56mR 5%
designator C?, comment 56mR
56mR 5% 500mW 1210 Thick Film Resistor; Manufacturer: FOJAN; Manufacturer Part Number: FRL1210JR056TS; Voltage Rating: 500V; Supplier: LCSC; Supplier Part Number: C5204047; Resistance: 56mR; Tolerance: 5%; Power: 500mW
footprint RES SMD 1210
pins: 1, 2

## RES 1210 56R 1%
designator C?, comment 56R
56R 1% 500mW 1210 Thick Film Resistor; Manufacturer: FOJAN; Manufacturer Part Number: FRC1210F56R0TS; Voltage Rating: 200V; Supplier: LCSC; Supplier Part Number: C2999507; Resistance: 56R; Tolerance: 1%; Power: 500mW
footprint RES SMD 1210
pins: 1, 2

## RES 1210 56R 5%
designator C?, comment 56R
56R 5% 500mW 1210 Thick Film Resistor; Manufacturer: FOJAN; Manufacturer Part Number: FRC1210J560TS; Voltage Rating: 200V; Supplier: LCSC; Supplier Part Number: C2930446; Resistance: 56R; Tolerance: 5%; Power: 500mW
footprint RES SMD 1210
pins: 1, 2

## RES 1210 60R4 1%
designator C?, comment 60R4
60.4R 1% 500mW 1210 Thick Film Resistor; Manufacturer: FOJAN; Manufacturer Part Number: FRC1210F60R4TS; Voltage Rating: 200V; Supplier: LCSC; Supplier Part Number: C3000659; Resistance: 60R4; Tolerance: 1%; Power: 500mW
footprint RES SMD 1210
pins: 1, 2

## RES 1210 62k 1%
designator C?, comment 62k
62kR 1% 500mW 1210 Thick Film Resistor; Manufacturer: FOJAN; Manufacturer Part Number: FRC1210F6202TS; Voltage Rating: 200V; Supplier: LCSC; Supplier Part Number: C2999512; Resistance: 62k; Tolerance: 1%; Power: 500mW
footprint RES SMD 1210
pins: 1, 2

## RES 1210 62k 5%
designator C?, comment 62k
62kR 5% 500mW 1210 Thick Film Resistor; Manufacturer: FOJAN; Manufacturer Part Number: FRC1210J623 TS; Voltage Rating: 200V; Supplier: LCSC; Supplier Part Number: C3013288; Resistance: 62k; Tolerance: 5%; Power: 500mW
footprint RES SMD 1210
pins: 1, 2

## RES 1210 62mR 1%
designator C?, comment 62mR
62mR 500mW Thick Film Resistor 600ppm/â„ƒ 1% 1210 Chip Resistor - Surface Mount RoHS; Manufacturer: FOJAN; Manufacturer Part Number: FRL1210FR062TS; Supplier: LCSC; Supplier Part Number: C7467651; Resistance: 62mR; Tolerance: 1%; Power: 500mW
footprint RES SMD 1210
pins: 1, 2

## RES 1210 62mR 5%
designator C?, comment 62mR
62mR 5% 500mW 1210 Thick Film Resistor; Manufacturer: FOJAN; Manufacturer Part Number: FRL1210JR062TS; Voltage Rating: 500V; Supplier: LCSC; Supplier Part Number: C3013358; Resistance: 62mR; Tolerance: 5%; Power: 500mW
footprint RES SMD 1210
pins: 1, 2

## RES 1210 62R 1%
designator C?, comment 62R
62R 1% 500mW 1210 Thick Film Resistor; Manufacturer: FOJAN; Manufacturer Part Number: FRC1210F62R0TS; Voltage Rating: 200V; Supplier: LCSC; Supplier Part Number: C2999513; Resistance: 62R; Tolerance: 1%; Power: 500mW
footprint RES SMD 1210
pins: 1, 2

## RES 1210 62R 5%
designator C?, comment 62R
62R 5% 500mW 1210 Thick Film Resistor; Manufacturer: FOJAN; Manufacturer Part Number: FRC1210J620TS; Voltage Rating: 200V; Supplier: LCSC; Supplier Part Number: C3000565; Resistance: 62R; Tolerance: 5%; Power: 500mW
footprint RES SMD 1210
pins: 1, 2

## RES 1210 68k 1%
designator C?, comment 68k
500mW 68kR 200V Thick Film Resistor 1% 100ppm/â„ƒ 1210 Chip Resistor - Surface Mount RoHS; Manufacturer: FOJAN; Manufacturer Part Number: FRC1210F6802TS; Supplier: LCSC; Supplier Part Number: C7467388; Resistance: 68k; Tolerance: 1%; Voltage Rating: 200V; Power: 500mW
footprint RES SMD 1210
pins: 1, 2

## RES 1210 68k 5%
designator C?, comment 68k
68kR 5% 500mW 1210 Thick Film Resistor; Manufacturer: FOJAN; Manufacturer Part Number: FRC1210J683TS; Voltage Rating: 200V; Supplier: LCSC; Supplier Part Number: C3000693; Resistance: 68k; Tolerance: 5%; Power: 500mW
footprint RES SMD 1210
pins: 1, 2

## RES 1210 68mR 1%
designator C?, comment 68mR
68mR 500mW Thick Film Resistor 600ppm/â„ƒ 1% 1210 Chip Resistor - Surface Mount RoHS; Manufacturer: FOJAN; Manufacturer Part Number: FRL1210FR068TS; Supplier: LCSC; Supplier Part Number: C7467480; Resistance: 68mR; Tolerance: 1%; Power: 500mW
footprint RES SMD 1210
pins: 1, 2

## RES 1210 68mR 5%
designator C?, comment 68mR
68mR 5% 500mW 1210 Thick Film Resistor; Manufacturer: FOJAN; Manufacturer Part Number: FRL1210JR068TS; Voltage Rating: 500V; Supplier: LCSC; Supplier Part Number: C5204048; Resistance: 68mR; Tolerance: 5%; Power: 500mW
footprint RES SMD 1210
pins: 1, 2

## RES 1210 68R 1%
designator C?, comment 68R
68R 1% 500mW 1210 Thick Film Resistor; Manufacturer: FOJAN; Manufacturer Part Number: FRC1210F68R0TS; Voltage Rating: 200V; Supplier: LCSC; Supplier Part Number: C3000593; Resistance: 68R; Tolerance: 1%; Power: 500mW
footprint RES SMD 1210
pins: 1, 2

## RES 1210 68R 5%
designator C?, comment 68R
68R 5% 500mW 1210 Thick Film Resistor; Manufacturer: FOJAN; Manufacturer Part Number: FRC1210J680TS; Voltage Rating: 200V; Supplier: LCSC; Supplier Part Number: C2930448; Resistance: 68R; Tolerance: 5%; Power: 500mW
footprint RES SMD 1210
pins: 1, 2

## RES 1210 75k 1%
designator C?, comment 75k
75kR 1% 500mW 1210 Thick Film Resistor; Manufacturer: FOJAN; Manufacturer Part Number: FRC1210F7502TS; Voltage Rating: 200V; Supplier: LCSC; Supplier Part Number: C5126068; Resistance: 75k; Tolerance: 1%; Power: 500mW
footprint RES SMD 1210
pins: 1, 2

## RES 1210 75k 5%
designator C?, comment 75k
75kR 5% 500mW 1210 Thick Film Resistor; Manufacturer: FOJAN; Manufacturer Part Number: FRC1210J753TS; Voltage Rating: 200V; Supplier: LCSC; Supplier Part Number: C3000703; Resistance: 75k; Tolerance: 5%; Power: 500mW
footprint RES SMD 1210
pins: 1, 2

## RES 1210 75mR 1%
designator C?, comment 75mR
500mW 75mR Thick Film Resistor 600ppm/â„ƒ 1% 1210 Chip Resistor - Surface Mount RoHS; Manufacturer: FOJAN; Manufacturer Part Number: FRL1210FR075TS; Supplier: LCSC; Supplier Part Number: C7467624; Resistance: 75mR; Tolerance: 1%; Power: 500mW
footprint RES SMD 1210
pins: 1, 2

## RES 1210 75mR 5%
designator C?, comment 75mR
75mR 5% 500mW 1210 Thick Film Resistor; Manufacturer: FOJAN; Manufacturer Part Number: FRL1210JR075TS; Voltage Rating: 500V; Supplier: LCSC; Supplier Part Number: C2974122; Resistance: 75mR; Tolerance: 5%; Power: 500mW
footprint RES SMD 1210
pins: 1, 2

## RES 1210 75R 1%
designator C?, comment 75R
75R 1% 500mW 1210 Thick Film Resistor; Manufacturer: FOJAN; Manufacturer Part Number: FRC1210F75R0TS; Voltage Rating: 200V; Supplier: LCSC; Supplier Part Number: C2960902; Resistance: 75R; Tolerance: 1%; Power: 500mW
footprint RES SMD 1210
pins: 1, 2

## RES 1210 75R 5%
designator C?, comment 75R
75R 5% 500mW 1210 Thick Film Resistor; Manufacturer: FOJAN; Manufacturer Part Number: FRC1210J750TS; Voltage Rating: 200V; Supplier: LCSC; Supplier Part Number: C3000695; Resistance: 75R; Tolerance: 5%; Power: 500mW
footprint RES SMD 1210
pins: 1, 2

## RES 1210 80R6 1%
designator C?, comment 80R6
80.6R 1% 500mW 1210 Thick Film Resistor; Manufacturer: FOJAN; Manufacturer Part Number: FRC1210F80R6TS; Voltage Rating: 200V; Supplier: LCSC; Supplier Part Number: C2999581; Resistance: 80R6; Tolerance: 1%; Power: 500mW
footprint RES SMD 1210
pins: 1, 2

## RES 1210 82k 1%
designator C?, comment 82k
82kR 1% 500mW 1210 Thick Film Resistor; Manufacturer: FOJAN; Manufacturer Part Number: FRC1210F8202TS; Voltage Rating: 200V; Supplier: LCSC; Supplier Part Number: C5121554; Resistance: 82k; Tolerance: 1%; Power: 500mW
footprint RES SMD 1210
pins: 1, 2

## RES 1210 82k 5%
designator C?, comment 82k
82kR 5% 500mW 1210 Thick Film Resistor; Manufacturer: FOJAN; Manufacturer Part Number: FRC1210J823 TS; Voltage Rating: 200V; Supplier: LCSC; Supplier Part Number: C5121556; Resistance: 82k; Tolerance: 5%; Power: 500mW
footprint RES SMD 1210
pins: 1, 2

## RES 1210 82mR 1%
designator C?, comment 82mR
82mR 1% 500mW 1210 Thick Film Resistor; Manufacturer: FOJAN; Manufacturer Part Number: FRL1210FR082TS; Voltage Rating: 500V; Supplier: LCSC; Supplier Part Number: C5159744; Resistance: 82mR; Tolerance: 1%; Power: 500mW
footprint RES SMD 1210
pins: 1, 2

## RES 1210 82mR 5%
designator C?, comment 82mR
82mR 5% 500mW 1210 Thick Film Resistor; Manufacturer: FOJAN; Manufacturer Part Number: FRL1210JR082TS; Voltage Rating: 500V; Supplier: LCSC; Supplier Part Number: C2974123; Resistance: 82mR; Tolerance: 5%; Power: 500mW
footprint RES SMD 1210
pins: 1, 2

## RES 1210 82R 1%
designator C?, comment 82R
82R 1% 500mW 1210 Thick Film Resistor; Manufacturer: FOJAN; Manufacturer Part Number: FRC1210F82R0TS; Voltage Rating: 200V; Supplier: LCSC; Supplier Part Number: C5121555; Resistance: 82R; Tolerance: 1%; Power: 500mW
footprint RES SMD 1210
pins: 1, 2

## RES 1210 82R 5%
designator C?, comment 82R
82R 5% 500mW 1210 Thick Film Resistor; Manufacturer: FOJAN; Manufacturer Part Number: FRC1210J820 TS; Voltage Rating: 200V; Supplier: LCSC; Supplier Part Number: C2960766; Resistance: 82R; Tolerance: 5%; Power: 500mW
footprint RES SMD 1210
pins: 1, 2

## RES 1210 88R7 1%
designator C?, comment 88R7
88.7R 1% 500mW 1210 Thick Film Resistor; Manufacturer: FOJAN; Manufacturer Part Number: FRC1210F88R7TS; Voltage Rating: 200V; Supplier: LCSC; Supplier Part Number: C42372192; Resistance: 88R7; Tolerance: 1%; Power: 500mW
footprint RES SMD 1210
pins: 1, 2

## RES 1210 90R9 1%
designator C?, comment 90R9
90.9R 1% 500mW 1210 Thick Film Resistor; Manufacturer: FOJAN; Manufacturer Part Number: FRC1210F90R9TS; Voltage Rating: 200V; Supplier: LCSC; Supplier Part Number: C5126248; Resistance: 90R9; Tolerance: 1%; Power: 500mW
footprint RES SMD 1210
pins: 1, 2

## RES 1210 91k 5%
designator C?, comment 91k
91kR 5% 500mW 1210 Thick Film Resistor; Manufacturer: FOJAN; Manufacturer Part Number: FRC1210J913 TS; Voltage Rating: 200V; Supplier: LCSC; Supplier Part Number: C22375100; Resistance: 91k; Tolerance: 5%; Power: 500mW
footprint RES SMD 1210
pins: 1, 2